# Altium schematic symbol library SJ-3502-SMT-TR.SchLib: 1 symbol
Pins are listed as number, name and electrical type; pins without a type are passive.

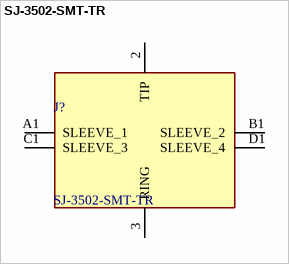
[diagram p0: symbol SJ-3502-SMT-TR]

## SJ-3502-SMT-TR
designator J?
Phone Connectors Audio Jacks; Manufacturer_Name: CUI Devices; Geometry.Height: 4.6mm; Manufacturer_Part_Number: SJ-3502-SMT-TR; Mouser Part Number: 490-SJ-3502-SMT-TR; Mouser Price/Stock: https://www.mouser.co.uk/ProductDetail/CUI-Devices/SJ-3502-SMT-TR?qs=WyjlAZoYn53BnW6I7ND97Q%3D%3D; Arrow Part Number: SJ-3502-SMT-TR; Arrow Price/Stock: https://www.arrow.com/en/products/sj-3502-smt-tr/cui-devices; Datasheet Link: https://www.cuidevices.com/product/resource/sj-3502-smt-tr.pdf
footprint SJ3502SMTTR
pins: 2 TIP, 3 RING, A1 SLEEVE_1, B1 SLEEVE_2, C1 SLEEVE_3, D1 SLEEVE_4